# Altium schematic symbol library BQ24295.SchLib: 2 symbols
Pins are listed as number, name and electrical type; pins without a type are passive.

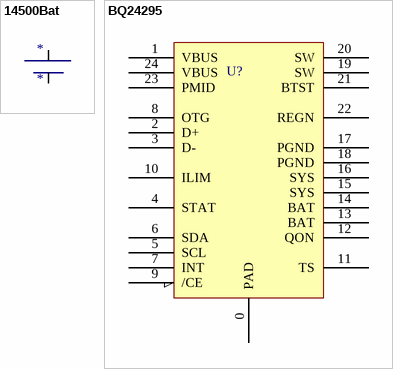
[diagram p0: symbols 14500Bat to BQ24295]

## 14500Bat
designator *
footprint 14500
pins: 1, 2

## BQ24295
designator U?  (value not drawn)
footprint BQ24295
pins: 0 PAD, 1 VBUS, 2 D+, 3 D-, 4 STAT, 5 SCL, 6 SDA, 7 INT, 8 OTG, 9 /CE, 10 ILIM, 11 TS, 12 QON, 13 BAT, 14 BAT, 15 SYS, 16 SYS, 17 PGND, 18 PGND, 19 SW, 20 SW, 21 BTST, 22 REGN, 23 PMID, 24 VBUS